# Altium integrated library StormNet18-v1.IntLib: 666 symbols (part 4 of 4)
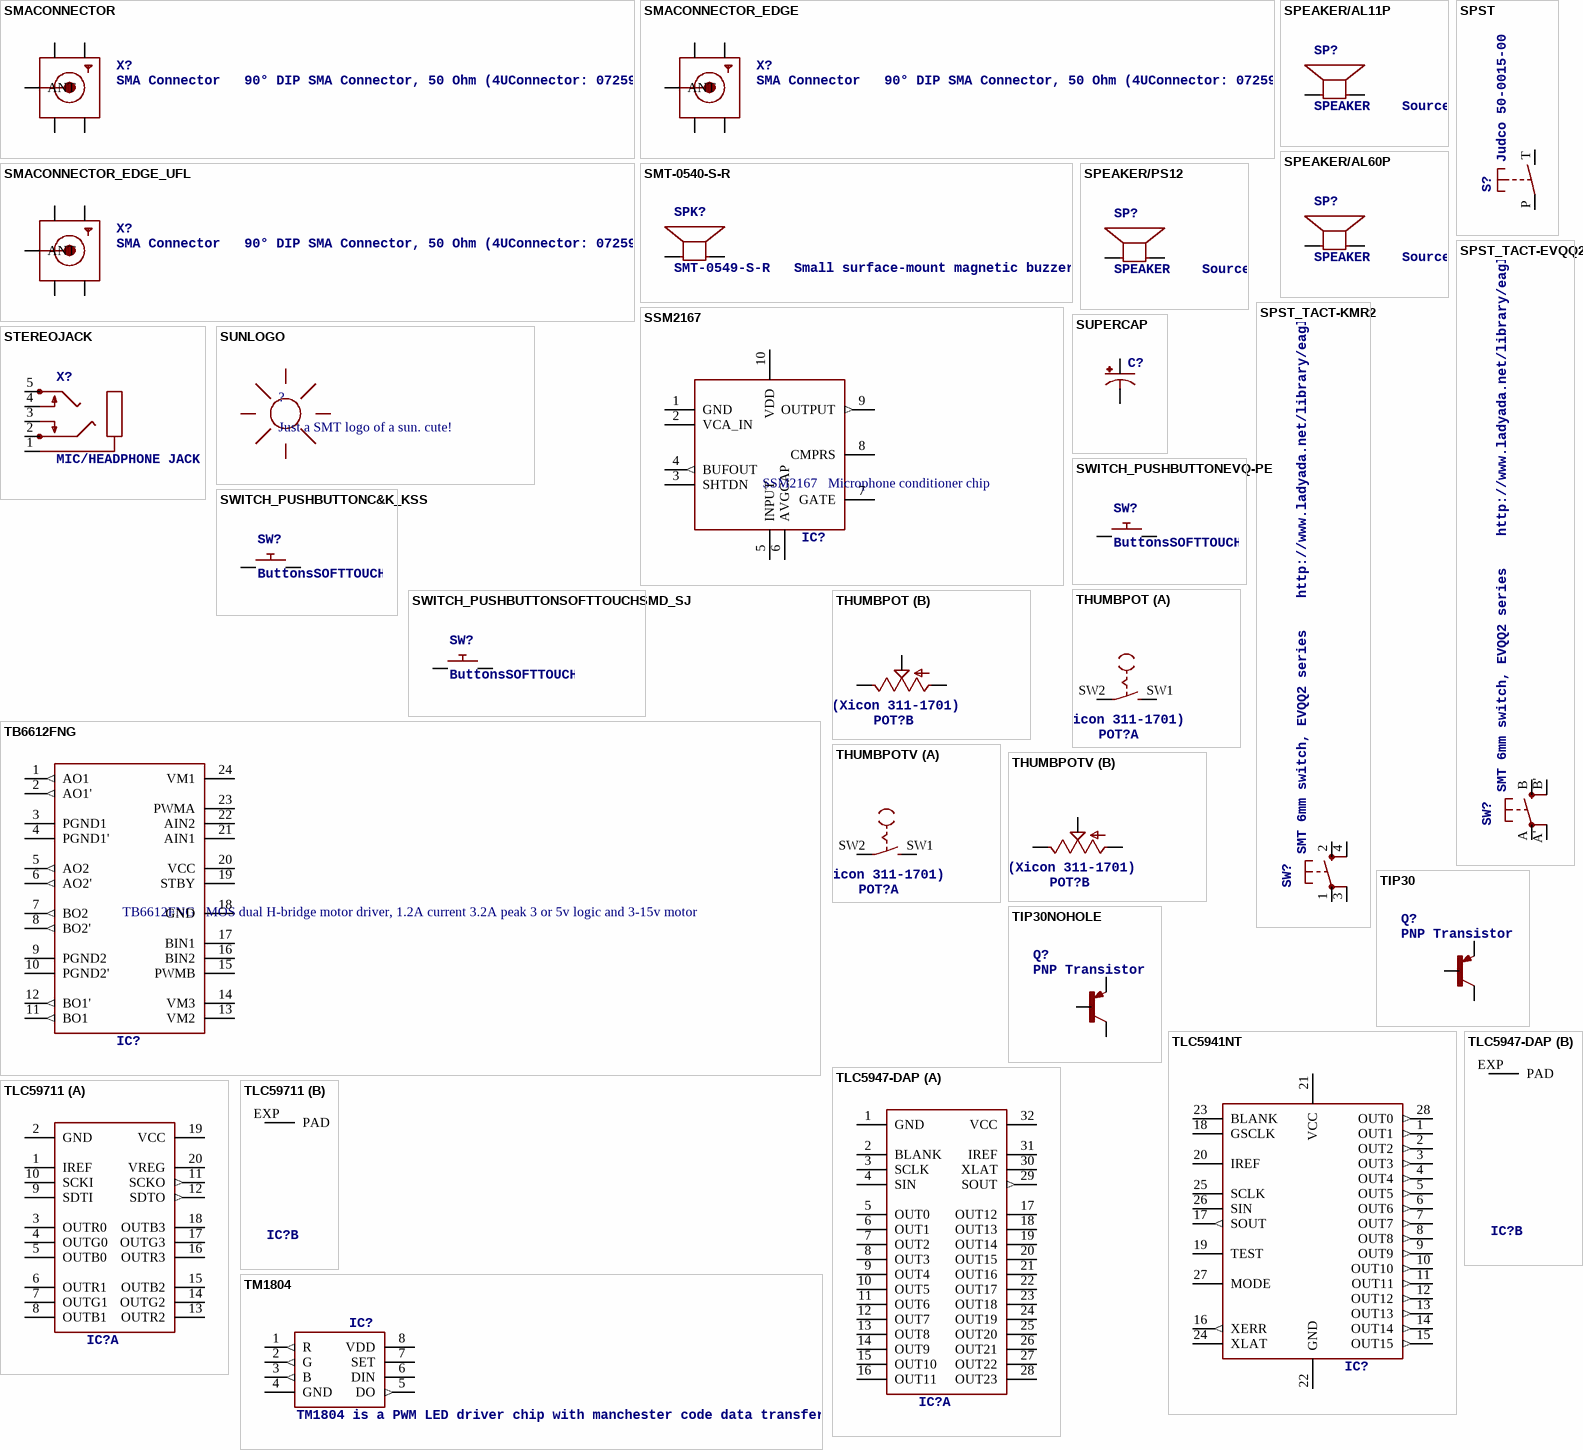
[diagram p34: symbols SMACONNECTOR to TM1804]

## SWITCH_PUSHBUTTONSOFTTOUCHSMD_SJ
designator SW?, comment ButtonsSOFTTOUCHSMD_SJ - Soft touch temporary push button (Super Junk Akihabara)    Compatible with SKPMANE010 [Mouser: 688-SKPMAN]   C&K_KSS = Digikey: KSS221GLFS
footprint PUSHBUTTON_SMD_SJ
pins: P$1, P$2

## TB6612FNG
designator IC?, comment TB6612FNG   MOS dual H-bridge motor driver, 1.2A current 3.2A peak 3 or 5v logic and 3-15v motor
footprint SSOP24
pins: 1 AO1 (out), 2 AO1' (out), 3 PGND1 (power), 4 PGND1' (power), 5 AO2 (out), 6 AO2' (out), 7 BO2 (out), 8 BO2' (out), 9 PGND2 (power), 10 PGND2' (power), 11 BO1 (out), 12 BO1' (out), 13 VM2 (power), 14 VM3 (power), 15 PWMB, 16 BIN2, 17 BIN1, 18 GND (power), 19 STBY, 20 VCC (power), 21 AIN1, 22 AIN2, 23 PWMA, 24 VM1 (power)

## THUMBPOT
designator POT?, comment Thumbwheel pot with switch   Available in horizontal (Alpha RV121SF) or vertical (Xicon 311-1701)
footprint THUMBWHEEL
part A pins: SW1 S, SW2 P
part B pins: 1 A, 2 S, 3 E

## THUMBPOTV
designator POT?, comment Thumbwheel pot with switch   Available in horizontal (Alpha RV121SF) or vertical (Xicon 311-1701)
footprint THUMBWHEELV
part A pins: SW1 S, SW2 P
part B pins: A, E, S

## TIP30
designator Q?, comment PNP Transistor
footprint TO220
pins: 1 B, 2 C, 3 E

## TIP30NOHOLE
designator Q?, comment PNP Transistor
footprint TO220-NOHOLE
pins: 1 B, 2 C, 3 E

## TLC5941NT
designator IC?
footprint DIL28-3
pins: 1 OUT1 (out), 2 OUT2 (out), 3 OUT3 (out), 4 OUT4 (out), 5 OUT5 (out), 6 OUT6 (out), 7 OUT7 (out), 8 OUT8 (out), 9 OUT9 (out), 10 OUT10 (out), 11 OUT11 (out), 12 OUT12 (out), 13 OUT13 (out), 14 OUT14 (out), 15 OUT15 (out), 16 XERR (out), 17 SOUT (out), 18 GSCLK, 19 TEST, 20 IREF, 21 VCC (power), 22 GND (power), 23 BLANK, 24 XLAT, 25 SCLK, 26 SIN, 27 MODE, 28 OUT0 (out)

## TLC5947-DAP
designator IC?
footprint HTSSOP32DAP
part A pins: 1 GND (power), 2 BLANK, 3 SCLK, 4 SIN, 5 OUT0 (oc), 6 OUT1 (oc), 7 OUT2 (oc), 8 OUT3 (oc), 9 OUT4 (oc), 10 OUT5 (oc), 11 OUT6 (oc), 12 OUT7 (oc), 13 OUT8 (oc), 14 OUT9 (oc), 15 OUT10 (oc), 16 OUT11 (oc), 17 OUT12 (oc), 18 OUT13 (oc), 19 OUT14 (oc), 20 OUT15 (oc), 21 OUT16 (oc), 22 OUT17 (oc), 23 OUT18 (oc), 24 OUT19 (oc), 25 OUT20 (oc), 26 OUT21 (oc), 27 OUT22 (oc), 28 OUT23 (oc), 29 SOUT (out), 30 XLAT, 31 IREF, 32 VCC (power)
part B pins: EXP PAD

## TLC59711
designator IC?
footprint HTSSOP20DAP
part A pins: 1 IREF, 2 GND (power), 3 OUTR0 (oc), 4 OUTG0 (oc), 5 OUTB0 (oc), 6 OUTR1 (oc), 7 OUTG1 (oc), 8 OUTB1 (oc), 9 SDTI, 10 SCKI, 11 SCKO (out), 12 SDTO (out), 13 OUTR2 (oc), 14 OUTG2 (oc), 15 OUTB2 (oc), 16 OUTR3 (oc), 17 OUTG3 (oc), 18 OUTB3 (oc), 19 VCC (power), 20 VREG
part B pins: EXP PAD

## TM1804
designator IC?, comment TM1804 is a PWM LED driver chip with manchester code data transfer!
footprint SO08
pins: 1 R (out), 2 G (out), 3 B (out), 4 GND (power), 5 DO (out), 6 DIN, 7 SET, 8 VDD (power)

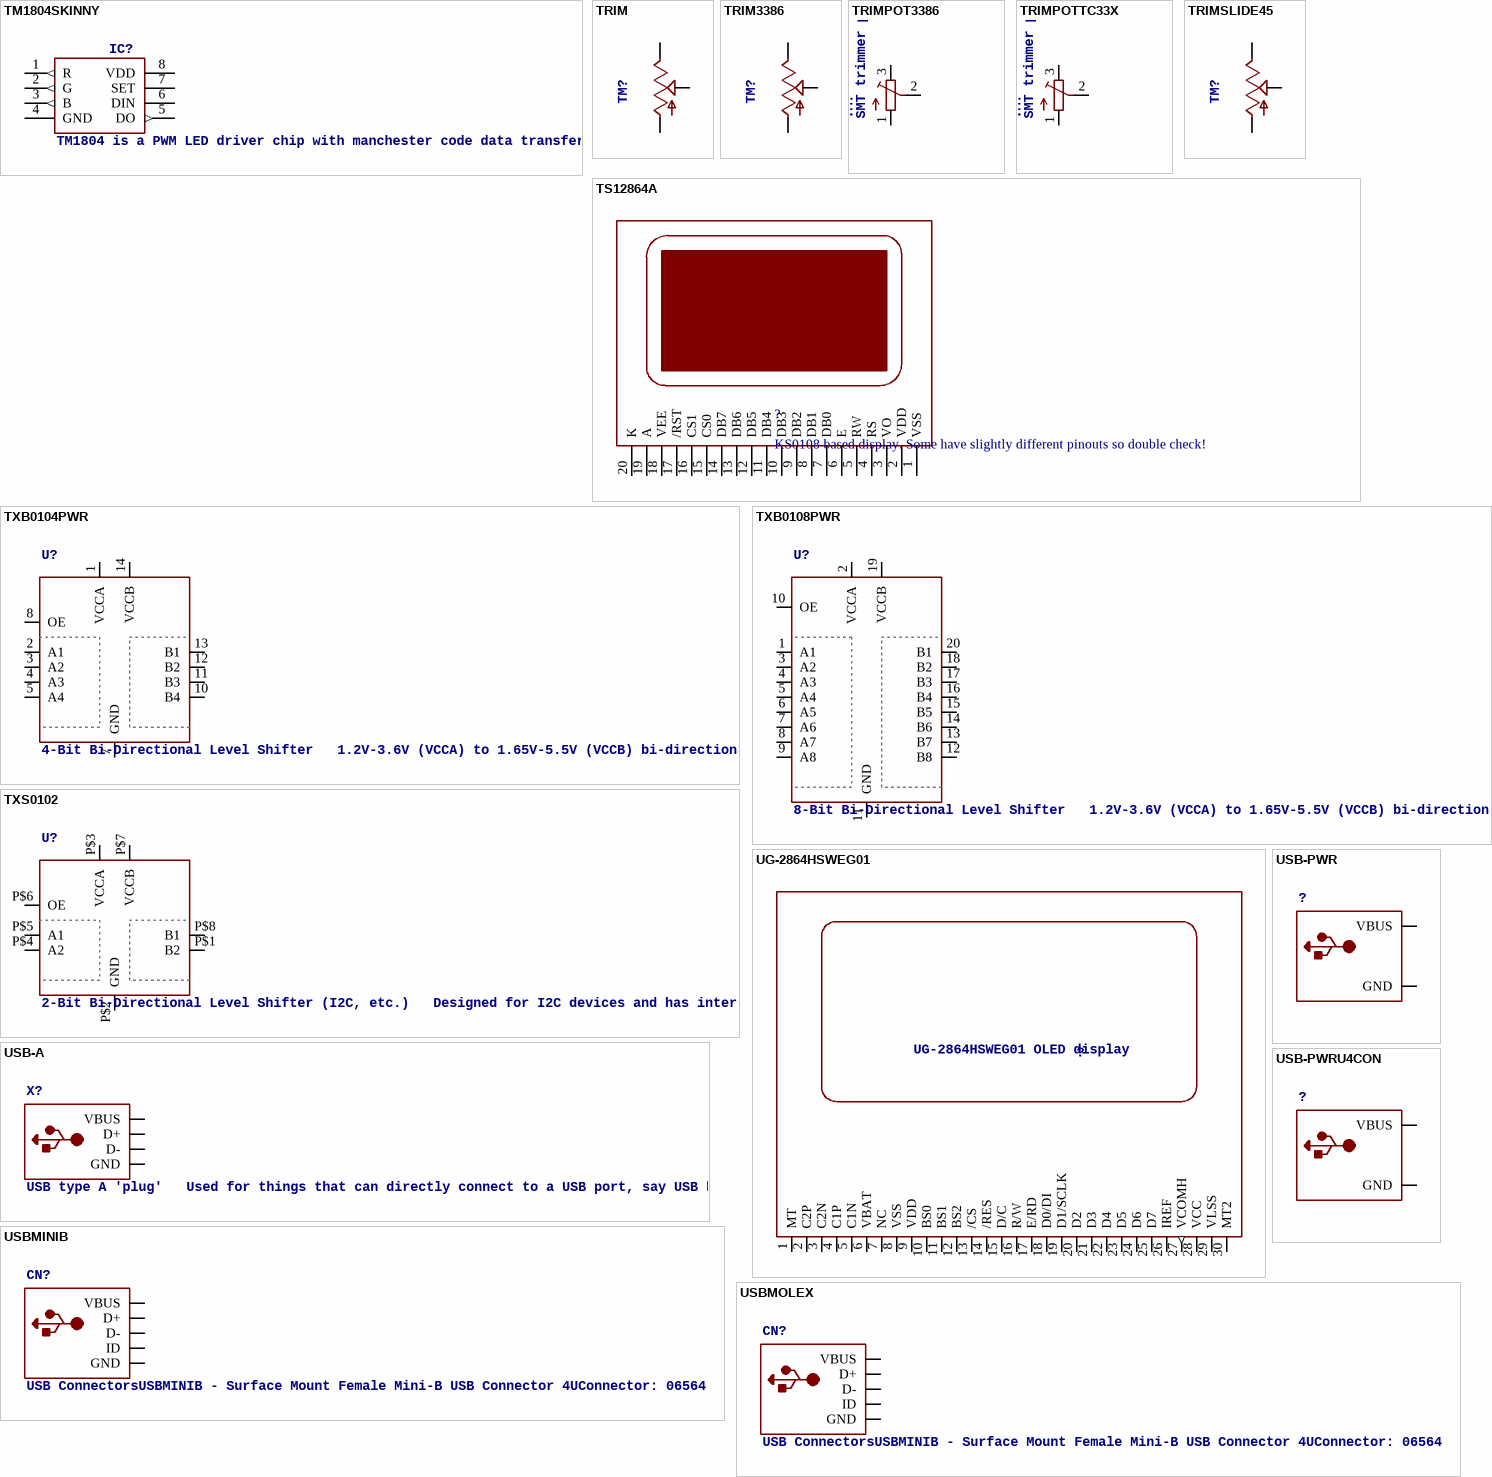
[diagram p30: symbols TM1804SKINNY to USBMOLEX]

## TM1804SKINNY
designator IC?, comment TM1804 is a PWM LED driver chip with manchester code data transfer!
footprint SO08-SKINNYPADS
pins: 1 R (out), 2 G (out), 3 B (out), 4 GND (power), 5 DO (out), 6 DIN, 7 SET, 8 VDD (power)

## TRIM
designator TM?
footprint 6MM
pins: A, E, S

## TRIM3386
designator TM?
footprint TRIM-3386
pins: ?1 A, ?2 E, ?3 S

## TRIMPOT3386
designator TM?, comment SMT trimmer potentiometer part number TC33X    http://www.ladyada.net/library/eagle
footprint TRIM-3386
pins: 1 A, 2 S, 3 E

## TRIMPOTTC33X
designator TM?, comment SMT trimmer potentiometer part number TC33X    http://www.ladyada.net/library/eagle
footprint TC33X
pins: 1 A, 2 S, 3 E

## TRIMSLIDE45
designator TM?
footprint SLIDEPOT-45
pins: A, B S, C E

## TS12864A
designator ?, comment KS0108 based display. Some have slightly different pinouts so double check!
footprint TS12864
pins: 1 VSS (oe), 2 VDD (oe), 3 VO, 4 RS, 5 RW, 6 E, 7 DB0, 8 DB1, 9 DB2, 10 DB3, 11 DB4, 12 DB5, 13 DB6, 14 DB7, 15 CS0, 16 CS1, 17 /RST, 18 VEE (oe), 19 A (oe), 20 K

## TXB0104PWR
designator U?, comment 4-Bit Bi-Directional Level Shifter   1.2V-3.6V (VCCA) to 1.65V-5.5V (VCCB) bi-directional level shifter with auto direction sensing.    Max data rate - VCCA 1.8V:  20Mbps (50ns), VCCA 3.3V: 100Mbps (10ns)       Digikey: 296-21929-1-ND
footprint TSSOP14
pins: 1 VCCA, 2 A1, 3 A2, 4 A3, 5 A4, 7 GND, 8 OE, 10 B4, 11 B3, 12 B2, 13 B1, 14 VCCB

## TXB0108PWR
designator U?, comment 8-Bit Bi-Directional Level Shifter   1.2V-3.6V (VCCA) to 1.65V-5.5V (VCCB) bi-directional level shifter with auto direction sensing.    Max data rate - VCCA 1.8V:  20Mbps (50ns), VCCA 3.3V: 100Mbps (10ns)       Digikey: 296-21527-1-ND
footprint TSSOP20
pins: 1 A1, 2 VCCA, 3 A2, 4 A3, 5 A4, 6 A5, 7 A6, 8 A7, 9 A8, 10 OE, 11 GND, 12 B8, 13 B7, 14 B6, 15 B5, 16 B4, 17 B3, 18 B2, 19 VCCB, 20 B1

## TXS0102
designator U?, comment 2-Bit Bi-Directional Level Shifter (I2C, etc.)   Designed for I2C devices and has internal pullups.  Not to be confused with TXB010x series.   1.2V-3.6V (VCCA) to 1.65V-5.5V (VCCB) bi-directional level shifter with auto direction sensing.    Max data rate - 24Mbps (Push Pull), 2Mbps (Open Drain)       Digikey: 296-21931-1-ND
footprint VFSOP-8
pins: P$1 B2, P$2 GND, P$3 VCCA, P$4 A2, P$5 A1, P$6 OE, P$7 VCCB, P$8 B1

## UG-2864HSWEG01
designator ?, comment UG-2864HSWEG01 OLED display
footprint 1X30-0.7MM
pins: 1 MT, 2 C2P, 3 C2N, 4 C1P, 5 C1N, 6 VBAT, 7 NC, 8 VSS (power), 9 VDD (power), 10 BS0, 11 BS1, 12 BS2, 13 /CS, 14 /RES, 15 D/C, 16 R/W, 17 E/RD, 18 D0/DI, 19 D1/SCLK, 20 D2, 21 D3, 22 D4, 23 D5, 24 D6, 25 D7, 26 IREF, 27 VCOMH (out), 28 VCC (power), 29 VLSS (power), 30 MT2

## USB-A
designator X?, comment USB type A 'plug'   Used for things that can directly connect to a USB port, say USB key
footprint MOLEX_480371000
pins: 1 VBUS (power), 2 D-, 3 D+, 4 GND (power)

## USB-PWR
designator ?
footprint USB-MINIB-THM-MOLEX-PWRONLY
pins: GND (power), VBUS (power)

## USB-PWRU4CON
designator ?
footprint USB-MINIB-THM-PWRONLY
pins: GND (power), VBUS (power)

## USBMINIB
designator CN?, comment USB ConnectorsUSBMINIB - Surface Mount Female Mini-B USB Connector 4UConnector: 06564   By microbuilder.euThru-hole RA Female Mini-B USB Connector 4UConnector: 18732   By ladyada.net
footprint USB-MINIB
pins: D+, D-, GND (power), ID, VBUS (power)

## USBMOLEX
designator CN?, comment USB ConnectorsUSBMINIB - Surface Mount Female Mini-B USB Connector 4UConnector: 06564   By microbuilder.euThru-hole RA Female Mini-B USB Connector 4UConnector: 18732   By ladyada.net
footprint USB-MINIB-THM-MOLEX
pins: D+, D-, GND (power), ID, VBUS (power)

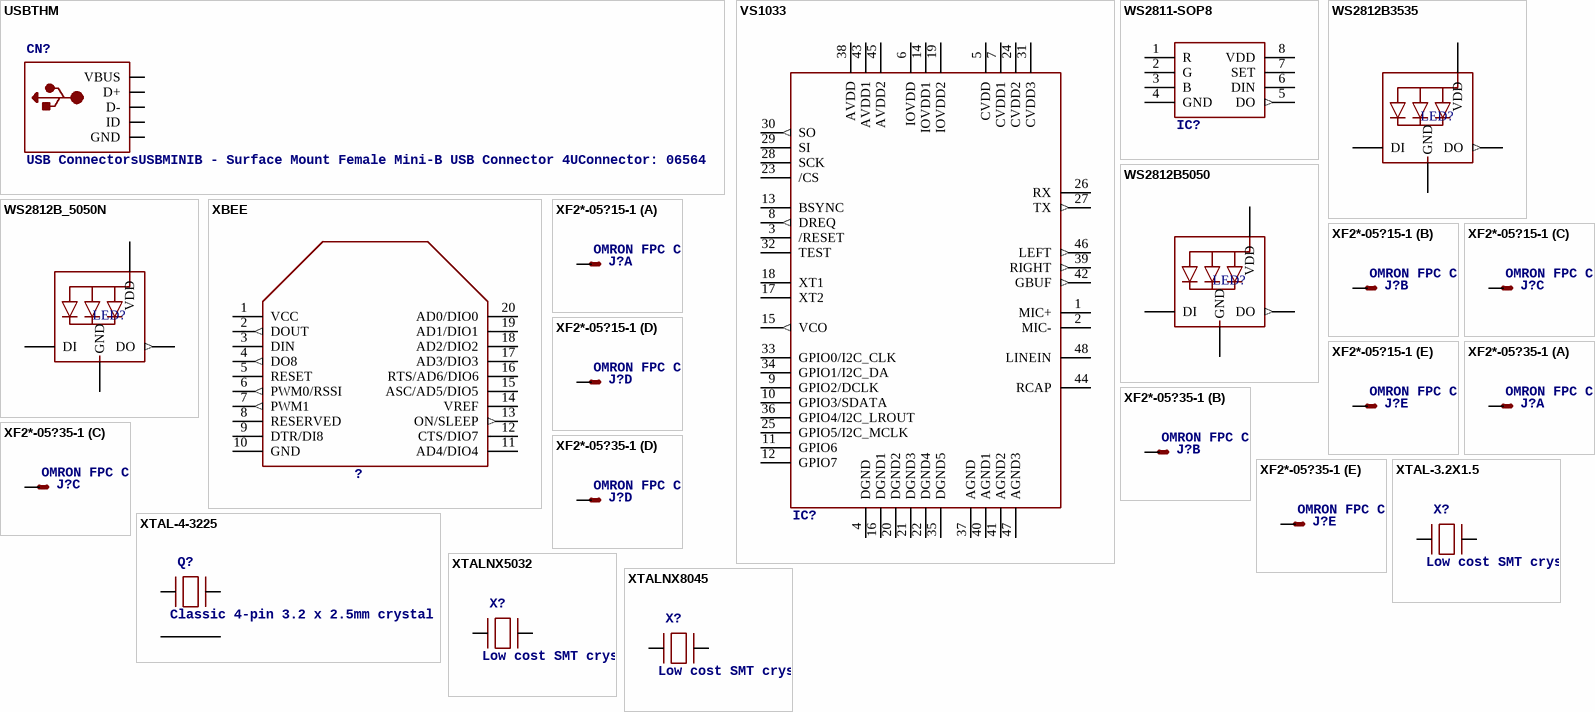
[diagram p31: symbols USBTHM to XTALNX8045]

## USBTHM
designator CN?, comment USB ConnectorsUSBMINIB - Surface Mount Female Mini-B USB Connector 4UConnector: 06564   By microbuilder.euThru-hole RA Female Mini-B USB Connector 4UConnector: 18732   By ladyada.net
footprint USB-MINIB-THM
pins: D+, D-, GND (power), ID, VBUS (power)

## VS1033
designator IC?
footprint SQFP-S-7X7-48
pins: 1 MIC+, 2 MIC-, 3 /RESET, 4 DGND (power), 5 CVDD (power), 6 IOVDD (power), 7 CVDD1 (power), 8 DREQ (out), 9 GPIO2/DCLK, 10 GPIO3/SDATA, 11 GPIO6, 12 GPIO7, 13 BSYNC, 14 IOVDD1 (power), 15 VCO (out), 16 DGND1 (power), 17 XT2, 18 XT1, 19 IOVDD2 (power), 20 DGND2 (power), 21 DGND3 (power), 22 DGND4 (power), 23 /CS, 24 CVDD2 (power), 25 GPIO5/I2C_MCLK, 26 RX, 27 TX (out), 28 SCK, 29 SI, 30 SO (out), 31 CVDD3 (power), 32 TEST, 33 GPIO0/I2C_CLK, 34 GPIO1/I2C_DA, 35 DGND5 (power), 36 GPIO4/I2C_LROUT, 37 AGND (power), 38 AVDD (power), 39 RIGHT (out), 40 AGND1 (power), 41 AGND2 (power), 42 GBUF (out), 43 AVDD1 (power), 44 RCAP, 45 AVDD2 (power), 46 LEFT (out), 47 AGND3 (power), 48 LINEIN

## WS2811-SOP8
designator IC?
footprint SO08-SKINNYPADS
pins: 1 R (oc), 2 G (oc), 3 B (oc), 4 GND (power), 5 DO (out), 6 DIN, 7 SET, 8 VDD (power)

## WS2812B3535
designator LED?
footprint LED3535
pins: 1 DI, 2 VDD (power), 3 DO (out), 4 GND (power)

## WS2812B5050
designator LED?
footprint WS2812B
pins: 1-VDD VDD (power), 2-DOUT DO (out), 3-GND GND (power), 4-DIN DI

## WS2812B_5050N
designator LED?
footprint WS2812B-NARROW
pins: 1-VDD VDD (power), 2-DOUT DO (out), 3-GND GND (power), 4-DIN DI

## XBEE
designator ?
footprint XBEE
pins: 1 VCC (oe), 2 DOUT (out), 3 DIN, 4 DO8 (out), 5 RESET, 6 PWM0/RSSI (out), 7 PWM1 (out), 8 RESERVED, 9 DTR/DI8, 10 GND (oe), 11 AD4/DIO4, 12 CTS/DIO7, 13 ON/SLEEP (out), 14 VREF, 15 ASC/AD5/DIO5, 16 RTS/AD6/DIO6, 17 AD3/DIO3, 18 AD2/DIO2, 19 AD1/DIO1, 20 AD0/DIO0

## XF2*-05?15-1
designator J?, comment OMRON FPC Connector   Source : http://www.omron.com/ecb/products/pdf/fpc.pdf
footprint XF2E-0515-1
part A pins: 1 MSV
part B pins: 2 MS
part C pins: 3 MS
part D pins: 4 MS
part E pins: 5 MS

## XF2*-05?35-1
designator J?, comment OMRON FPC Connector   Source : http://www.omron.com/ecb/products/pdf/fpc.pdf
footprint XF2L-0535-1
part A pins: 1 MSV
part B pins: 2 MS
part C pins: 3 MS
part D pins: 4 MS
part E pins: 5 MS

## XTAL-3.2X1.5
designator X?, comment Low cost SMT crystals, no capacitors included    http://www.ladyada.net/library/eagle
footprint XTAL3215
pins: P$1, P$2

## XTAL-4-3225
designator Q?, comment Classic 4-pin 3.2 x 2.5mm crystal
footprint NX3225
pins: 1 X1, 2 G2 (power), 3 X2, 4 G1 (power)

## XTALNX5032
designator X?, comment Low cost SMT crystals, no capacitors included    http://www.ladyada.net/library/eagle
footprint NX5032
pins: P$1, P$2

## XTALNX8045
designator X?, comment Low cost SMT crystals, no capacitors included    http://www.ladyada.net/library/eagle
footprint NX8045
pins: P$1, P$2